# EAGLE library part FDC9266 (library 8Bit_Parts)
FDC9266 MFM Disk Controller
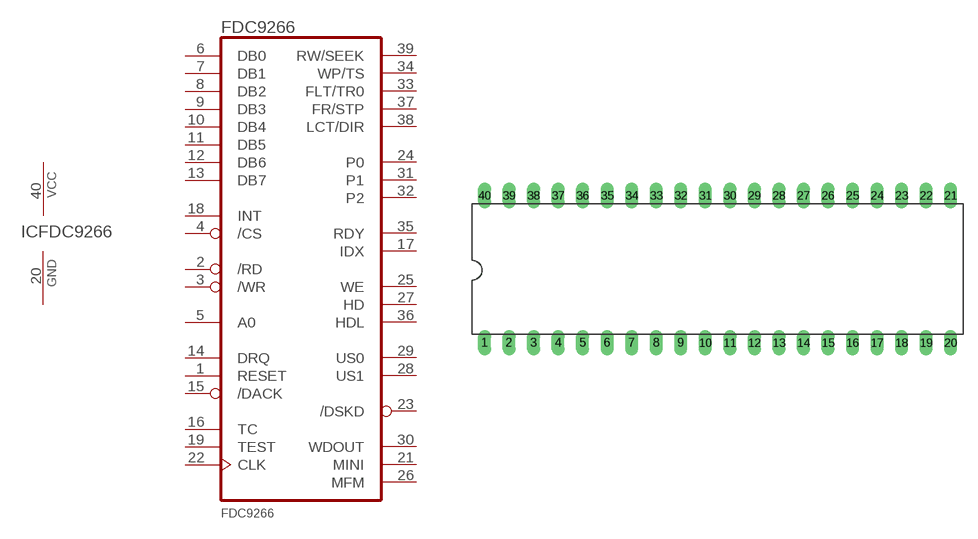
[diagram p0: symbol with the pads of DIL40; footprint DIL40]

Designator prefix IC; gates G$1=FDC9266 FDC9266=PWRN

## FDC9266  [DIL40]
1  G$1:RESET  in
2  G$1:/RD  out
3  G$1:/WR  out
4  G$1:/CS  out
5  G$1:A0  hiz
6  G$1:DB0
7  G$1:DB1
8  G$1:DB2
9  G$1:DB3
10  G$1:DB4
11  G$1:DB5
12  G$1:DB6
13  G$1:DB7
14  G$1:DRQ  in
15  G$1:/DACK  out
16  G$1:TC  in
17  G$1:IDX  in
18  G$1:INT  in
19  G$1:TEST  nc
20  FDC9266:GND  pwr
21  G$1:MINI  in
22  G$1:CLK  in
23  G$1:/DSKD  in
24  G$1:P0  hiz
25  G$1:WE  out
26  G$1:MFM  out
27  G$1:HD  out
28  G$1:US1  out
29  G$1:US0  out
30  G$1:WDOUT  out
31  G$1:P1  hiz
32  G$1:P2  hiz
33  G$1:FLT/TR0  in
34  G$1:WP/TS  in
35  G$1:RDY  in
36  G$1:HDL  out
37  G$1:FR/STP  hiz
38  G$1:LCT/DIR  hiz
39  G$1:RW/SEEK  hiz
40  FDC9266:VCC  pwr

## Footprint DIL40 (pad centres in mm)
Dual In Line Package
drill 0.813 long: 1 -24.13,-7.62; 2 -21.59,-7.62; 3 -19.05,-7.62; 4 -16.51,-7.62; 5 -13.97,-7.62; 6 -11.43,-7.62; 7 -8.89,-7.62; 8 -6.35,-7.62; 9 -3.81,-7.62; 10 -1.27,-7.62; 11 1.27,-7.62; 12 3.81,-7.62; 13 6.35,-7.62; 14 8.89,-7.62; 15 11.43,-7.62; 16 13.97,-7.62; 17 16.51,-7.62; 18 19.05,-7.62; 19 21.59,-7.62; 20 24.13,-7.62; 21 24.13,7.62; 22 21.59,7.62; 23 19.05,7.62; 24 16.51,7.62; 25 13.97,7.62; 26 11.43,7.62; 27 8.89,7.62; 28 6.35,7.62; 29 3.81,7.62; 30 1.27,7.62; 31 -1.27,7.62; 32 -3.81,7.62; 33 -6.35,7.62; 34 -8.89,7.62; 35 -11.43,7.62; 36 -13.97,7.62; 37 -16.51,7.62; 38 -19.05,7.62; 39 -21.59,7.62; 40 -24.13,7.62